# Altium schematic symbol library CMOS(SMD).SchLib: 1 symbol
Pins are listed as number, name and electrical type; pins without a type are passive.

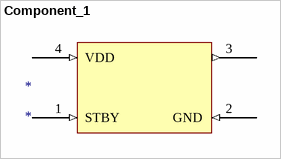
[diagram p0: symbol Component_1]

## Component_1
designator *
footprint PCBComponent_1
pins: 1 STBY (in), 2 GND (in), 3 (out), 4 VDD (in)